# EAGLE library part PJRAS4X2 (library cdp)
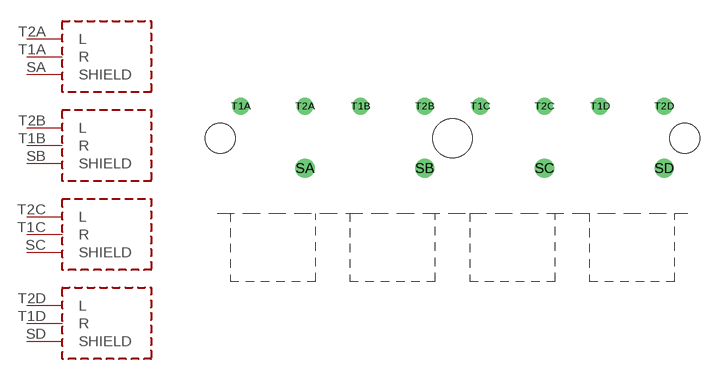
[diagram p53: symbol with the pads of PJRAS4X2; footprint PJRAS4X2]

Designator prefix J; gates G$1=RCA-STEREO G$2=RCA-STEREO G$3=RCA-STEREO G$4=RCA-STEREO

## PJRAS4X2  [PJRAS4X2]
SA  G$1:SHIELD
SB  G$2:SHIELD
SC  G$3:SHIELD
SD  G$4:SHIELD
T1A  G$1:R
T1B  G$2:R
T1C  G$3:R
T1D  G$4:R
T2A  G$1:L
T2B  G$2:L
T2C  G$3:L
T2D  G$4:L

## Footprint PJRAS4X2 (pad centres in mm)
drill 1.5 round: SA -17.25,5.25; SB -3.25,5.25; SC 10.75,5.25; SD 24.75,5.25
drill 1.3 round: T1A -24.75,12.5; T1B -10.75,12.5; T1C 3.25,12.5; T1D 17.25,12.5; T2A -17.25,12.5; T2B -3.25,12.5; T2C 10.75,12.5; T2D 24.75,12.5
hole 3.5 at -27.15,8.75
hole 3.5 at 27.15,8.75
hole 4.6 at 0,8.75